# EAGLE library part FH26W-15S-0.3SHW_60_ (library FH26W-15S-0.3SHW_60_)
HIROSE(HRS) - FH26W-15S-0.3SHW(60) - FFC / FPC Board Connector, ZIF, 0.3 mm, 15 Contacts, Receptacle, FH26W, Surface Mount, Bottom Source: Datasheet <https://www.hirose.com/product/download/?distributor=digikey&type=2d&lang=en&num=FH26W-13S-0.3SHW(60)>
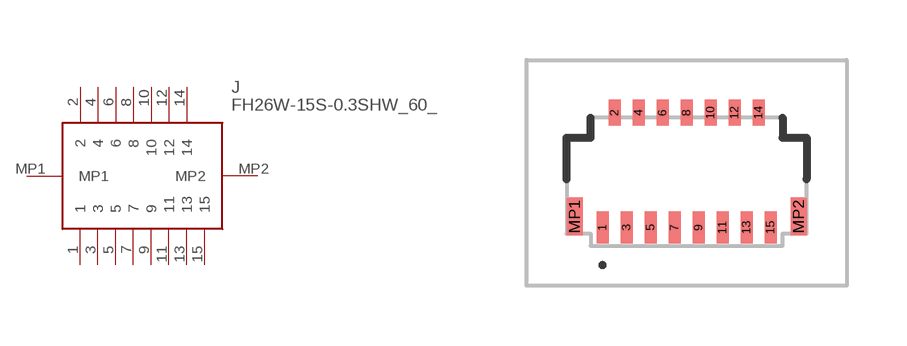
[diagram p0: symbol with the pads of FH26W15S03SHW60; footprint FH26W15S03SHW60]

Designator prefix J

## FH26W-15S-0.3SHW_60_ (Description: HIROSE(HRS) - FH26W-15S-0.3SHW(60) - FFC / FPC Board Connector, ZIF, 0.3 mm, 15 Contacts, Receptacle, FH26W, Surface Mount, Bottom; Height: 1.1mm; Manufacturer_Name: Hirose; Manufacturer_Part_Number: FH26W-15S-0.3SHW(60); Mouser_Part_Number: 798-FH26W15S03SHW60; Mouser_Price-Stock: https://www.mouser.co.uk/ProductDetail/Hirose-Connector/FH26W-15S-03SHW60?qs=vcbW%252B4%252BSTIrJNlyfMzW6OQ%3D%3D)  [FH26W15S03SHW60]
1  1
2  2
3  3
4  4
5  5
6  6
7  7
8  8
9  9
10  10
11  11
12  12
13  13
14  14
15  15
MP1  MP1
MP2  MP2

## Footprint FH26W15S03SHW60 (pad centres in mm)
FH26W-15S-0.3SHW(60)-2
smd 0.3 x 0.8: 1 -2.1,-1.212; 3 -1.5,-1.212; 5 -0.9,-1.212; 7 -0.3,-1.212; 9 0.3,-1.212; 11 0.9,-1.212; 13 1.5,-1.212; 15 2.1,-1.212
smd 0.3 x 0.65: 2 -1.8,1.663; 4 -1.2,1.663; 6 -0.6,1.663; 8 0,1.663; 10 0.6,1.663; 12 1.2,1.663; 14 1.8,1.663
smd 0.4 x 0.95: MP1 -2.8,-0.937; MP2 2.8,-0.937